# Altium integrated library LM2676SX-ADJ_NOPB.IntLib: 1 symbol
Pins are listed as number, name and electrical type; pins without a type are passive.

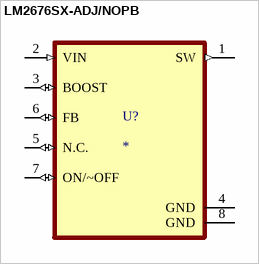
[diagram p0: symbol LM2676SX-ADJ/NOPB]

## LM2676SX-ADJ/NOPB
designator U?
SIMPLE SWITCHER&reg; 8V to 40V, 3A Low Component Count Step-Down Regulator 7-DDPAK/TO-263 -40 to 125; MF: Texas Instruments; MP: LM2676SX-ADJ/NOPB; Check_prices: https://www.snapeda.com/parts/LM2676SX-ADJ/NOPB/Texas%20Instruments/view-part/276902/?ref=eda; SnapEDA_Link: https://www.snapeda.com/parts/LM2676SX-ADJ/NOPB/Texas%20Instruments/view-part/276902/?ref=snap; Availability: Good; Price: None; Value: *; Purchase-URL: https://pricing.snapeda.com/search/part/LM2676SX-ADJ/NOPB/?ref=eda; Package: TO-263-7 Texas Instruments
footprint TO127P1435X464-8N
pins: 1 SW (out), 2 VIN (in), 3 BOOST (io), 4 GND (power), 5 N.C. (io), 6 FB (io), 7 ON/~OFF (io), 8 GND (power)